# EAGLE library part LTC3388 (library powerfilm)
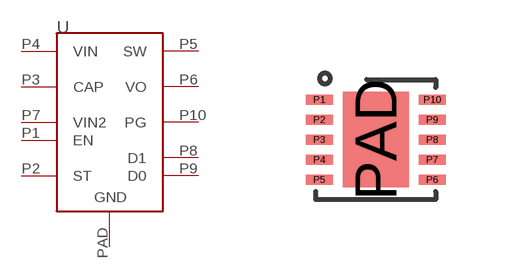
[diagram p7: symbol with the pads of DFN10; footprint DFN10]

Designator prefix U

## LTC3388 (DIGIKEY: LTC3388EDD-3#PBF-ND)  [DFN10]
P1  EN
P2  ST
P3  CAP
P4  VIN
P5  SW
P6  VO
P7  VIN2
P8  D1
P9  D0
P10  PG
PAD  GND

## Footprint DFN10 (pad centres in mm)
smd 0.675 x 0.25: P1 -1.413,1; P2 -1.413,0.5; P3 -1.413,0; P4 -1.413,-0.5; P5 -1.413,-1; P6 1.413,-1; P7 1.413,-0.5; P8 1.413,0; P9 1.413,0.5; P10 1.413,1
smd 1.65 x 2.38: PAD 0,0